# Altium footprint library fszhang.PcbLib: 279 footprints (part 14 of 18)
Each footprint in its own frame and in the unit in brackets; x right, y up, seen from the top. Pads: shape width x height; smd on the part's side, far side on the other; paste and mask are expansions set on the pad; w line width, h text height; cw(c..) or ccw(c..) is an arc to the next point about the centre after c.
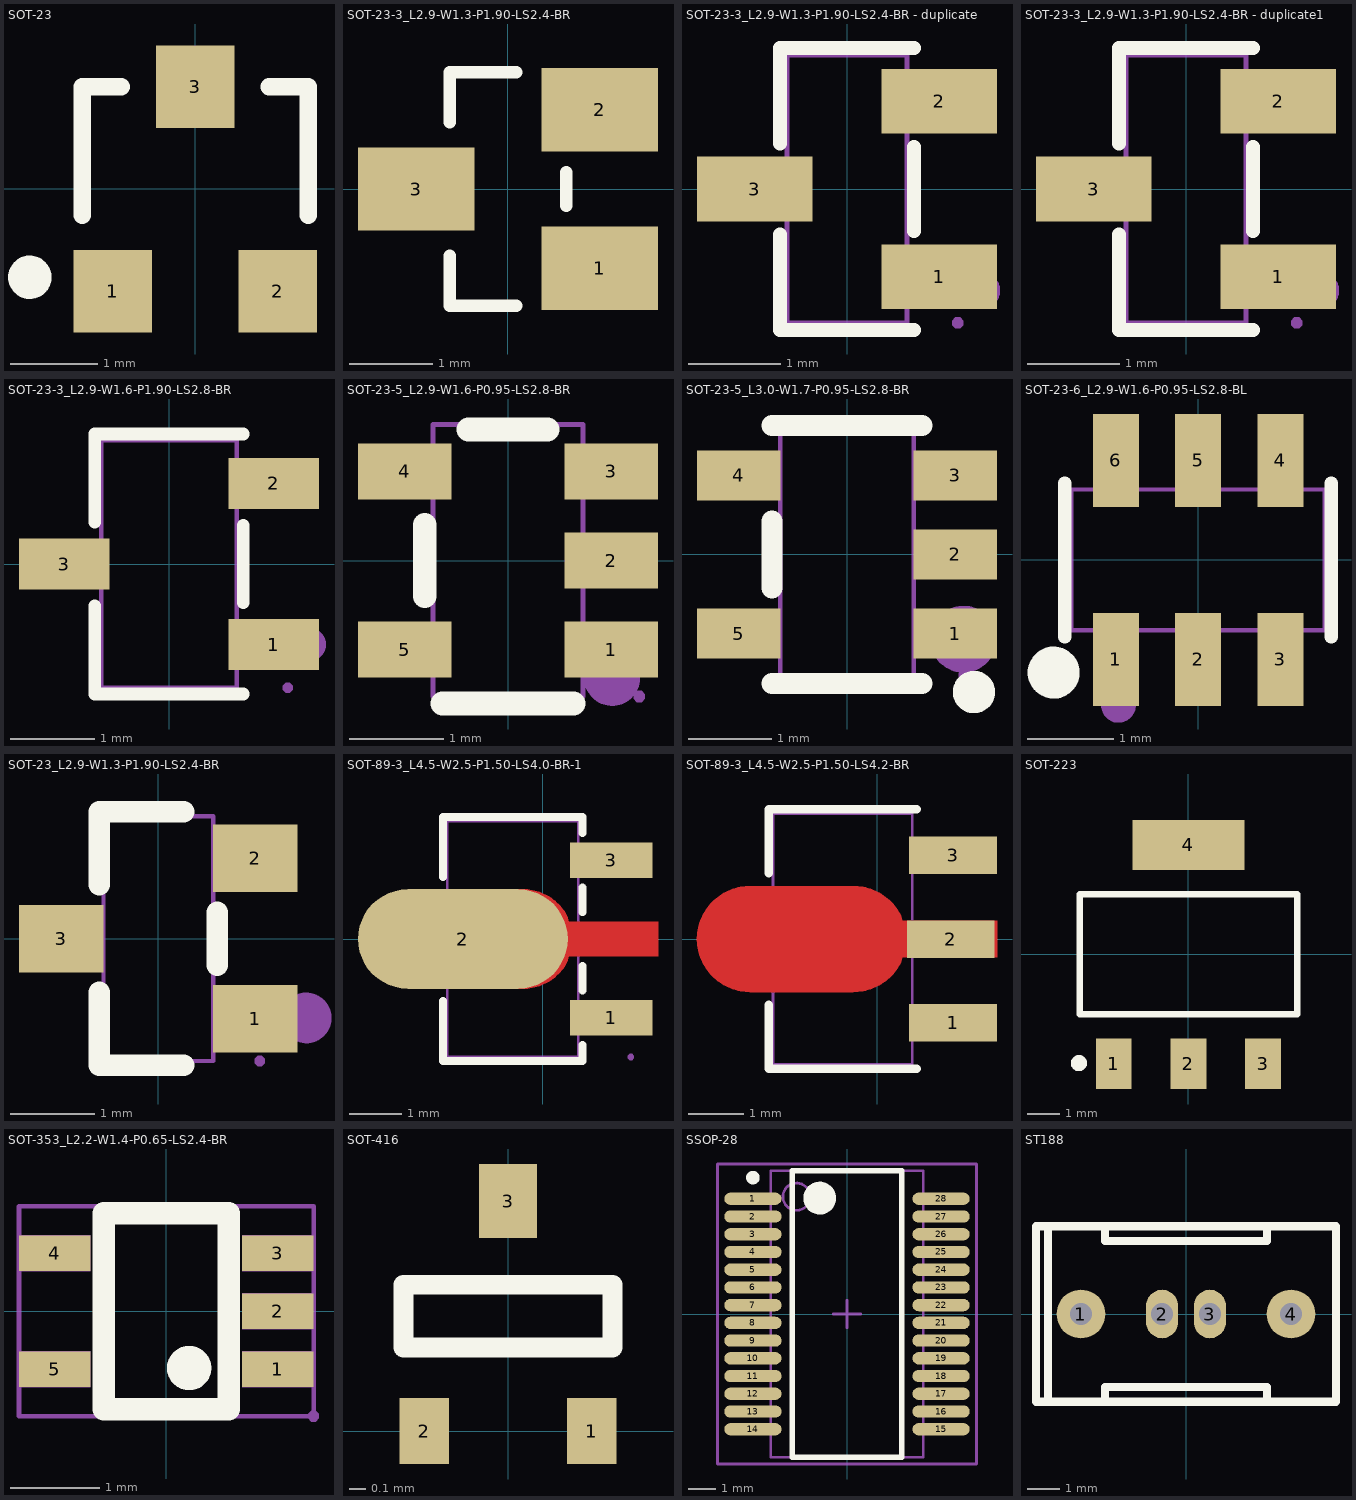
[diagram p13: the footprints below, top view; thin cyan lines are the x and y axes]

## SOT-23 [mm]
height 1.1
pads (3):
  rect 0.9x0.95 smd: 1(-0.95,-1.175) 2(0.95,-1.175) 3(0,1.175)
Top Overlay:
  circle w0.25: c-1.903,-1.016 r0.125
  lines w0.2: -1.3,-0.3 -1.3,1.175 -0.85,1.175 ; 0.85,1.175 1.3,1.175 1.3,-0.3

## SOT-23-3_L2.9-W1.3-P1.90-LS2.4-BR [mm]
pads (3):
  rect 1.4x1 smd: 1(1.1,-0.95) 2(1.1,0.95) 3(-1.1,0)
Top Overlay:
  lines w0.15: -0.7,-0.8 -0.7,-1.4 0.1,-1.4 ; -0.7,0.8 -0.7,1.4 0.1,1.4 ; 0.7,-0.2 0.7,0.2
3D body "SOT-23-3.STEP": height 1.2, standoff 0, extent -1.273,-1.45 1.527,1.45

## SOT-23-3_L2.9-W1.3-P1.90-LS2.4-BR - duplicate [mm]
pads (3):
  rect 1.25x0.7 smd mask+0.051: 1(1,-0.95) 2(1,0.95) 3(-1,0)
Top Overlay:
  lines w0.152: -0.726,-0.495 -0.726,-1.526 0.726,-1.526 ; -0.726,0.495 -0.726,1.526 0.726,1.526 ; 0.726,-0.455 0.726,0.455
Mechanical 6:
  circle w0.2: c1.46,-1.1 r0.1
Mechanical 15:
  region: 1.26,-1.45 1.26,-1.425 1.225,-1.39 1.175,-1.39 1.14,-1.425 1.14,-1.45 1.14,-1.475 1.175,-1.51 1.225,-1.51 1.26,-1.475 1.26,-1.45
  region: 0.64,0.735 0.64,1.165 0.91,1.165 0.91,0.735
  region: 0.9,0.735 0.9,1.165 1.2,1.165 1.2,0.735
  region: 0.64,-1.165 0.64,-0.735 0.91,-0.735 0.91,-1.165
  region: 0.9,-1.165 0.9,-0.735 1.2,-0.735 1.2,-1.165
  region: -0.91,-0.215 -0.91,0.215 -0.64,0.215 -0.64,-0.215
  region: -1.2,-0.215 -1.2,0.215 -0.9,0.215 -0.9,-0.215
  lines w0.051: -0.65,-1.45 -0.65,1.45 0.65,1.45 0.65,-1.45 -0.65,-1.45

## SOT-23-3_L2.9-W1.3-P1.90-LS2.4-BR - duplicate1 [mm]
pads (3):
  rect 1.25x0.7 smd: 1(1,-0.95) 2(1,0.95) 3(-1,0)
Top Overlay:
  lines w0.152: -0.726,-0.495 -0.726,-1.526 0.726,-1.526 ; -0.726,0.495 -0.726,1.526 0.726,1.526 ; 0.726,-0.455 0.726,0.455
Mechanical 6:
  circle w0.2: c1.46,-1.1 r0.1
Mechanical 15:
  region: -1.2,-0.215 -1.2,0.215 -0.9,0.215 -0.9,-0.215
  region: -0.91,-0.215 -0.91,0.215 -0.64,0.215 -0.64,-0.215
  region: 0.9,-1.165 0.9,-0.735 1.2,-0.735 1.2,-1.165
  region: 0.64,-1.165 0.64,-0.735 0.91,-0.735 0.91,-1.165
  region: 0.9,0.735 0.9,1.165 1.2,1.165 1.2,0.735
  region: 0.64,0.735 0.64,1.165 0.91,1.165 0.91,0.735
  region: 1.26,-1.45 1.26,-1.425 1.225,-1.39 1.175,-1.39 1.14,-1.425 1.14,-1.45 1.14,-1.475 1.175,-1.51 1.225,-1.51 1.26,-1.475 1.26,-1.45
  lines w0.051: -0.65,-1.45 0.65,-1.45 0.65,1.45 -0.65,1.45 -0.65,-1.45

## SOT-23-3_L2.9-W1.6-P1.90-LS2.8-BR [mm]
pads (3):
  rect 1.07x0.6 smd mask+0.051: 1(1.235,-0.95) 2(1.235,0.95) 3(-1.235,0)
Top Overlay:
  lines w0.152: -0.876,-0.495 -0.876,-1.536 0.876,-1.536 ; -0.876,0.495 -0.876,1.536 0.876,1.536 ; 0.876,-0.455 0.876,0.455
Mechanical 6:
  circle w0.2: c1.651,-0.95 r0.1
Mechanical 15:
  region: 1.46,-1.46 1.46,-1.435 1.425,-1.4 1.375,-1.4 1.34,-1.435 1.34,-1.46 1.34,-1.485 1.375,-1.52 1.425,-1.52 1.46,-1.485 1.46,-1.46
  region: 0.95,-1.15 0.95,-0.75 1.4,-0.75 1.4,-1.15
  region: 0.79,-1.15 0.79,-0.75 0.96,-0.75 0.96,-1.15
  region: 0.95,0.75 0.95,1.15 1.4,1.15 1.4,0.75
  region: 0.79,0.75 0.79,1.15 0.96,1.15 0.96,0.75
  region: -0.95,-0.2 -0.95,0.2 -1.4,0.2 -1.4,-0.2
  region: -0.96,-0.2 -0.96,0.2 -0.79,0.2 -0.79,-0.2
  lines w0.051: -0.8,-1.46 -0.8,1.46 0.8,1.46 0.8,-1.46 -0.8,-1.46

## SOT-23-5_L2.9-W1.6-P0.95-LS2.8-BR [mm]
pads (5):
  rect 1x0.6 smd paste+0 mask+0.05: 1(1.1,-0.95) 2(1.1,0) 3(1.1,0.95) 4(-1.1,0.95) 5(-1.1,-0.95)
Top Overlay:
  lines w0.254: -0.889,-0.381 -0.889,0.381 ; -0.699,-1.524 0.698,-1.524 ; -0.422,1.397 0.422,1.397
Mechanical 6:
  circle w0.3: c1.11,-1.25 r0.15
Mechanical 15:
  region: 0.96,-0.2 0.79,-0.2 0.79,0.2 0.96,0.2
  region: 1.4,-0.2 0.95,-0.2 0.95,0.2 1.4,0.2
  region: 0.96,0.75 0.79,0.75 0.79,1.15 0.96,1.15
  region: 1.4,0.75 0.95,0.75 0.95,1.15 1.4,1.15
  region: 0.96,-1.15 0.79,-1.15 0.79,-0.75 0.96,-0.75
  region: 1.4,-1.15 0.95,-1.15 0.95,-0.75 1.4,-0.75
  region: -0.79,0.75 -0.96,0.75 -0.96,1.15 -0.79,1.15
  region: -0.95,0.75 -1.4,0.75 -1.4,1.15 -0.95,1.15
  region: -0.79,-1.15 -0.96,-1.15 -0.96,-0.75 -0.79,-0.75
  region: -0.95,-1.15 -1.4,-1.15 -1.4,-0.75 -0.95,-0.75
  region: 1.46,-1.45 1.46,-1.425 1.425,-1.39 1.375,-1.39 1.34,-1.425 1.34,-1.45 1.34,-1.475 1.375,-1.51 1.425,-1.51 1.46,-1.475 1.46,-1.45
  lines w0.051: -0.8,-1.45 -0.8,1.45 0.8,1.45 0.8,-1.45 -0.8,-1.45

## SOT-23-5_L3.0-W1.7-P0.95-LS2.8-BR [mm]
pads (5):
  rect 1x0.6 smd: 1(1.3,-0.95) 2(1.3,0) 3(1.3,0.95) 4(-1.3,0.95) 5(-1.3,-0.95)
Top Overlay:
  circle w0.254: c1.524,-1.651 r0.127
  lines w0.254: -0.9,-1.55 0.9,-1.55 ; -0.9,-0.4 -0.9,0.4 ; -0.9,1.55 0.9,1.55
Mechanical 6:
  circle w0.4: c1.397,-1.016 r0.2
Mechanical 15:
  region: 1.46,-1.45 1.46,-1.425 1.425,-1.39 1.375,-1.39 1.34,-1.425 1.34,-1.45 1.34,-1.475 1.375,-1.51 1.425,-1.51 1.46,-1.475 1.46,-1.45
  region: 0.79,-1.15 0.79,-0.75 0.96,-0.75 0.96,-1.15
  region: 0.95,-1.15 0.95,-0.75 1.4,-0.75 1.4,-1.15
  region: 0.79,-0.2 0.79,0.2 0.96,0.2 0.96,-0.2
  region: 0.95,-0.2 0.95,0.2 1.4,0.2 1.4,-0.2
  region: 0.79,0.75 0.79,1.15 0.96,1.15 0.96,0.75
  region: 0.95,0.75 0.95,1.15 1.4,1.15 1.4,0.75
  region: -0.96,0.75 -0.96,1.15 -0.79,1.15 -0.79,0.75
  region: -1.4,0.75 -1.4,1.15 -0.95,1.15 -0.95,0.75
  region: -0.96,-1.15 -0.96,-0.75 -0.79,-0.75 -0.79,-1.15
  region: -1.4,-1.15 -1.4,-0.75 -0.95,-0.75 -0.95,-1.15
  lines w0.051: -0.8,-1.45 0.8,-1.45 0.8,1.45 -0.8,1.45 -0.8,-1.45

## SOT-23-6_L2.9-W1.6-P0.95-LS2.8-BL [mm]
pads (6):
  rect 0.532x1.072 smd: 1(-0.95,-1.149) 2(0,-1.149) 3(0.95,-1.149) 4(0.95,1.149) 5(0,1.149) 6(-0.95,1.149)
Top Overlay:
  circle w0.3: c-1.668,-1.301 r0.15
  lines w0.152: -1.539,-0.889 -1.539,0.889 ; 1.539,-0.889 1.539,0.889
Mechanical 6:
  circle w0.2: c-0.92,-1.68 r0.1
Mechanical 15:
  region: -1.165,0.935 -0.735,0.935 -0.735,0.803 -1.165,0.803
  region: -1.165,0.925 -0.735,0.925 -0.735,1.4 -1.165,1.4
  region: -0.215,0.935 0.215,0.935 0.215,0.803 -0.215,0.803
  region: -0.215,0.925 0.215,0.925 0.215,1.4 -0.215,1.4
  region: 0.735,0.935 1.165,0.935 1.165,0.803 0.735,0.803
  region: 0.735,0.925 1.165,0.925 1.165,1.4 0.735,1.4
  region: 0.735,-0.803 1.165,-0.803 1.165,-0.935 0.735,-0.935
  region: 0.735,-0.925 1.165,-0.925 1.165,-1.4 0.735,-1.4
  region: -0.215,-0.803 0.215,-0.803 0.215,-0.935 -0.215,-0.935
  region: -0.215,-0.925 0.215,-0.925 0.215,-1.4 -0.215,-1.4
  region: -1.165,-0.803 -0.735,-0.803 -0.735,-0.935 -1.165,-0.935
  region: -1.165,-0.925 -0.735,-0.925 -0.735,-1.4 -1.165,-1.4
  region: -1.403,-1.4 -1.403,-1.375 -1.438,-1.34 -1.488,-1.34 -1.523,-1.375 -1.523,-1.4 -1.523,-1.425 -1.488,-1.46 -1.438,-1.46 -1.403,-1.425 -1.403,-1.4
  lines w0.051: -1.463,-0.813 -1.463,0.813 1.463,0.813 1.463,-0.813 -1.463,-0.813

## SOT-23_L2.9-W1.3-P1.90-LS2.4-BR [mm]
pads (3):
  rect 1x0.8 smd paste+0 mask+0.051: 1(1.15,-0.95) 2(1.15,0.95) 3(-1.15,0)
Top Overlay:
  lines w0.254: -0.7,-0.636 -0.7,-1.5 0.3,-1.5 ; -0.7,0.636 -0.7,1.5 0.3,1.5 ; 0.7,-0.314 0.7,0.314
Mechanical 6:
  circle w0.3: c1.753,-0.94 r0.15
Mechanical 15:
  region: -1.2,-0.2 -1.2,0.2 -0.8,0.2 -0.8,-0.2
  region: -0.81,-0.2 -0.81,0.2 -0.64,0.2 -0.64,-0.2
  region: 0.8,0.75 0.8,1.15 1.2,1.15 1.2,0.75
  region: 0.64,0.75 0.64,1.15 0.81,1.15 0.81,0.75
  region: 0.8,-1.15 0.8,-0.75 1.2,-0.75 1.2,-1.15
  region: 0.64,-1.15 0.64,-0.75 0.81,-0.75 0.81,-1.15
  region: 1.26,-1.45 1.26,-1.425 1.225,-1.39 1.175,-1.39 1.14,-1.425 1.14,-1.45 1.14,-1.475 1.175,-1.51 1.225,-1.51 1.26,-1.475 1.26,-1.45
  lines w0.051: -0.65,-1.45 0.65,-1.45 0.65,1.45 -0.65,1.45 -0.65,-1.45

## SOT-89-3_L4.5-W2.5-P1.50-LS4.0-BR-1 [mm]
pads (3):
  rect 1.575x0.672 smd: 1(1.306,-1.5) 3(1.306,1.5)
  oval 4x1.9 smd: 2(-1.524,0)
Top Layer:
  region: -2.233,0.95 -0.379,0.95 -0.335,0.949 -0.29,0.946 -0.246,0.94 -0.202,0.933 -0.158,0.924 -0.115,0.912 -0.073,0.899 -0.031,0.884 0.01,0.866 0.05,0.847 0.089,0.826 0.128,0.803 0.165,0.779 0.201,0.752 0.235,0.724 0.269,0.695 0.3,0.664 0.331,0.631 0.36,0.597 0.387,0.562 0.412,0.525 0.436,0.488 0.458,0.449 0.478,0.409 0.496,0.33 2.194,0.33 2.194,-0.33 0.496,-0.33 0.478,-0.409 0.458,-0.449 0.436,-0.488 0.412,-0.526 0.387,-0.562 0.36,-0.597 0.331,-0.631 0.3,-0.664 0.269,-0.695 0.235,-0.725 0.201,-0.753 0.165,-0.779 0.128,-0.804 0.089,-0.827 0.05,-0.848 0.01,-0.867 -0.031,-0.884 -0.073,-0.899 -0.115,-0.913 -0.158,-0.924 -0.202,-0.934 -0.246,-0.941 -0.29,-0.946 -0.335,-0.949 -0.379,-0.95 -2.233,-0.95 -2.278,-0.949 -2.322,-0.946 -2.366,-0.941 -2.41,-0.934 -2.454,-0.924 -2.497,-0.913 -2.54,-0.899 -2.581,-0.884 -2.622,-0.867 -2.663,-0.848 -2.702,-0.827 -2.74,-0.804 -2.777,-0.779 -2.813,-0.753 -2.848,-0.725 -2.881,-0.695 -2.913,-0.664 -2.943,-0.631 -2.972,-0.597 -2.999,-0.562 -3.025,-0.526 -3.048,-0.488 -3.07,-0.449 -3.091,-0.409 -3.109,-0.369 -3.125,-0.327 -3.14,-0.285 -3.152,-0.242 -3.162,-0.199 -3.171,-0.155 -3.177,-0.111 -3.181,-0.067 -3.183,-0.022 -3.183,0.022 -3.181,0.067 -3.177,0.111 -3.171,0.155 -3.162,0.199 -3.152,0.242 -3.14,0.285 -3.125,0.327 -3.109,0.369 -3.091,0.409 -3.07,0.449 -3.048,0.488 -3.025,0.525 -2.999,0.562 -2.972,0.597 -2.943,0.631 -2.913,0.664 -2.881,0.695 -2.848,0.724 -2.813,0.752 -2.777,0.779 -2.74,0.803 -2.702,0.826 -2.663,0.847 -2.622,0.866 -2.581,0.884 -2.54,0.899 -2.497,0.912 -2.454,0.924 -2.41,0.933 -2.366,0.94 -2.322,0.946 -2.278,0.949
Top Overlay:
  lines w0.152: -1.9,-1.177 -1.9,-2.326 0.752,-2.326 0.752,-2.016 ; -1.9,1.177 -1.9,2.326 0.752,2.326 0.752,2.016 ; 0.752,-0.984 0.752,-0.51 ; 0.752,0.51 0.752,0.984
Mechanical 6:
  circle w0.3: c1.765,-1.5 r0.15
Mechanical 15:
  region: 1.736,-2.25 1.736,-2.225 1.701,-2.19 1.651,-2.19 1.616,-2.225 1.616,-2.25 1.616,-2.275 1.651,-2.31 1.701,-2.31 1.736,-2.275 1.736,-2.25
  region: 0.391,-0.259 1.676,-0.259 1.676,0.241 0.391,0.241 -0.184,0.766 -2.048,0.766 -2.324,0.491 -2.324,-0.509 -2.048,-0.784 -0.184,-0.784
  region: 0.576,1.7 1.676,1.7 1.676,1.3 0.576,1.3
  region: 0.576,-1.3 1.676,-1.3 1.676,-1.7 0.576,-1.7
  lines w0.051: -1.824,-2.25 -1.824,2.25 0.676,2.25 0.676,-2.25 -1.824,-2.25

## SOT-89-3_L4.5-W2.5-P1.50-LS4.2-BR [mm]
pads (3):
  rect 1.575x0.672 smd mask+0.051: 1(1.356,-1.5) 2(1.315,0) 3(1.356,1.5)
Top Layer:
  region: -2.283,0.95 -0.429,0.95 -0.384,0.949 -0.34,0.946 -0.296,0.94 -0.252,0.933 -0.208,0.924 -0.165,0.912 -0.123,0.899 -0.081,0.884 -0.04,0.866 0,0.847 0.04,0.826 0.078,0.803 0.115,0.779 0.151,0.752 0.185,0.724 0.219,0.695 0.251,0.664 0.281,0.631 0.31,0.597 0.337,0.562 0.362,0.525 0.386,0.488 0.408,0.449 0.428,0.409 0.447,0.33 2.144,0.33 2.144,-0.33 0.447,-0.33 0.428,-0.409 0.408,-0.449 0.386,-0.488 0.362,-0.526 0.337,-0.562 0.31,-0.597 0.281,-0.631 0.251,-0.664 0.219,-0.695 0.185,-0.725 0.151,-0.753 0.115,-0.779 0.078,-0.804 0.04,-0.827 0,-0.848 -0.04,-0.867 -0.081,-0.884 -0.123,-0.899 -0.165,-0.913 -0.208,-0.924 -0.252,-0.934 -0.296,-0.941 -0.34,-0.946 -0.384,-0.949 -0.429,-0.95 -2.283,-0.95 -2.328,-0.949 -2.372,-0.946 -2.416,-0.941 -2.46,-0.934 -2.504,-0.924 -2.547,-0.913 -2.589,-0.899 -2.631,-0.884 -2.672,-0.867 -2.713,-0.848 -2.752,-0.827 -2.79,-0.804 -2.827,-0.779 -2.863,-0.753 -2.898,-0.725 -2.931,-0.695 -2.963,-0.664 -2.993,-0.631 -3.022,-0.597 -3.049,-0.562 -3.075,-0.526 -3.098,-0.488 -3.12,-0.449 -3.141,-0.409 -3.159,-0.369 -3.175,-0.327 -3.189,-0.285 -3.202,-0.242 -3.212,-0.199 -3.22,-0.155 -3.227,-0.111 -3.231,-0.067 -3.233,-0.022 -3.233,0.022 -3.231,0.067 -3.227,0.111 -3.22,0.155 -3.212,0.199 -3.202,0.242 -3.189,0.285 -3.175,0.327 -3.159,0.369 -3.141,0.409 -3.12,0.449 -3.098,0.488 -3.075,0.525 -3.049,0.562 -3.022,0.597 -2.993,0.631 -2.963,0.664 -2.931,0.695 -2.898,0.724 -2.863,0.752 -2.827,0.779 -2.79,0.803 -2.752,0.826 -2.713,0.847 -2.672,0.866 -2.631,0.884 -2.589,0.899 -2.547,0.912 -2.504,0.924 -2.46,0.933 -2.416,0.94 -2.372,0.946 -2.328,0.949
Top Overlay:
  lines w0.152: -1.95,-1.177 -1.95,-2.326 0.702,-2.326 ; -1.95,1.177 -1.95,2.326 0.702,2.326
Mechanical 6:
  circle w0.3: c1.715,-1.5 r0.15
Mechanical 15:
  region: 0.624,1.75 1.724,1.75 1.724,1.25 0.624,1.25
  region: 0.624,-1.25 1.724,-1.25 1.724,-1.75 0.624,-1.75
  region: 0.439,-0.26 1.724,-0.26 1.724,0.26 0.439,0.26 -0.136,0.863 -2,0.863 -2.471,0.288 -2.471,-0.287 -2,-0.862 -0.136,-0.862
  lines w0.051: -1.874,-2.25 0.626,-2.25 0.626,2.25 -1.874,2.25 -1.874,-2.25

## SOT-223 [mm]
height 1.8
pads (4):
  rect 1.1x1.55 smd: 1(-2.3,-3.375) 2(0,-3.375) 3(2.3,-3.375)
  rect 3.45x1.55 smd: 4(0,3.375)
Top Overlay:
  circle w0.25: c-3.376,-3.353 r0.125
  lines w0.2: -3.35,-1.85 -3.35,1.85 3.35,1.85 3.35,-1.85 -3.35,-1.85
3D body: height 0.8, standoff 0, extent -3.302,-2.032 3.302,2.159
3D body: height 0.3, standoff 0, extent -1.651,2.159 1.651,3.429
3D body: height 0.3, standoff 0, extent -2.794,-3.937 -1.905,-2.032
3D body: height 0.3, standoff 0, extent -0.508,-3.937 0.381,-2.032
3D body: height 0.3, standoff 0, extent 1.905,-3.937 2.794,-2.032

## SOT-353_L2.2-W1.4-P0.65-LS2.4-BR [mil]
pads (5):
  rect 31.5x15.7 smd mask+2: 1(49.2,-25.6) 2(49.2,0) 3(49.2,25.6) 4(-49.2,25.6) 5(-49.2,-25.6)
Top Overlay:
  lines w9.8: 15,-25.1 cw(c10.1,-25.05) 15,-25
  lines w10: -27.6,-43.3 -27.6,43.3 27.5,43.3 27.5,-43.3 -27.6,-43.3
Mechanical 15:
  region: -33.5,-17.7 -33.5,-33.5 -65,-33.5 -65,-17.7
  region: -33.5,33.5 -33.5,17.7 -65,17.7 -65,33.5
  region: 65,33.5 65,17.7 33.5,17.7 33.5,33.5
  region: 65,7.9 65,-7.9 33.5,-7.9 33.5,7.9
  region: 65,-17.7 65,-33.5 33.5,-33.5 33.5,-17.7
  region: 67.4,-46.3 67.4,-45.31 65.99,-43.9 64.01,-43.9 62.6,-45.31 62.6,-46.3 62.6,-47.29 64.01,-48.7 65.99,-48.7 67.4,-47.29 67.4,-46.3
  lines w2: -65,-46.3 -65,46.3 65,46.3 65,-46.3 -65,-46.3

## SOT-416 [mm]
height 0.7
pads (3):
  rect 0.3x0.4 smd: 1(0.508,0) 2(-0.508,0)
  rect 0.35x0.45 smd: 3(0,1.397)
Top Overlay:
  lines w0.12: -0.635,0.508 -0.635,0.889 0.635,0.889 0.635,0.508 -0.635,0.508

## SSOP-28 [mm] "FT232"
height 2
pads (28):
  oval 2.1x0.45 smd: 1(-3.45,4.225) 2(-3.45,3.575) 3(-3.45,2.925) 4(-3.45,2.275) 5(-3.45,1.625) 6(-3.45,0.975) 7(-3.45,0.325) 8(-3.45,-0.325) 9(-3.45,-0.975) 10(-3.45,-1.625) 11(-3.45,-2.275) 12(-3.45,-2.925) 13(-3.45,-3.575) 14(-3.45,-4.225) 15(3.45,-4.225) 16(3.45,-3.575) 17(3.45,-2.925) 18(3.45,-2.275) 19(3.45,-1.625) 20(3.45,-0.975) 21(3.45,-0.325) 22(3.45,0.325) 23(3.45,0.975) 24(3.45,1.625) 25(3.45,2.275) 26(3.45,2.925) 27(3.45,3.575) 28(3.45,4.225)
Top Overlay:
  circle w0.6: c-1,4.25 r0.3
  circle w0.25: c-3.45,5 r0.125
  lines w0.2: -2,-5.25 2,-5.25 2,5.25 -2,5.25 -2,-5.25
Mechanical 13:
  circle w0.1: c-1.85,4.3 r0.5
  lines w0.1: -2.8,-5.25 2.8,-5.25 2.8,5.25 -2.8,5.25 -2.8,-5.25
Mechanical 15:
  lines w0.1: -0.5,0 0.5,0 ; 0,-0.5 0,0.5 ; -4.75,-5.5 4.75,-5.5 4.75,5.5 -4.75,5.5 -4.75,-5.5
3D body: height 2, standoff 0.09, extent -2.8,-5.25 2.8,5.25

## ST188 [mm] "反射式光电传感器"
height 8.2
pads (4):
  round 1.524 hole 0.7: 1(-3.29,0) 4(3.29,0)
  oval 1x1.524 hole 0.7: 2(-0.75,0) 3(0.75,0)
Top Overlay:
  lines w0.254: -4.318,-2.75 -4.318,2.75 ; -2.54,-2.75 -2.54,-2.286 2.54,-2.286 2.54,-2.75 ; -2.54,2.75 -2.54,2.286 2.54,2.286 2.54,2.75 ; -4.7,-2.75 4.7,-2.75 4.7,2.75 -4.7,2.75 -4.7,-2.75